# Altium footprint library QFN32_5x5mm.PcbLib: 4 footprints
Each footprint in its own frame and in the unit in brackets; x right, y up, seen from the top. Pads: shape width x height; smd on the part's side, far side on the other; paste and mask are expansions set on the pad; w line width, h text height; cw(c..) or ccw(c..) is an arc to the next point about the centre after c.
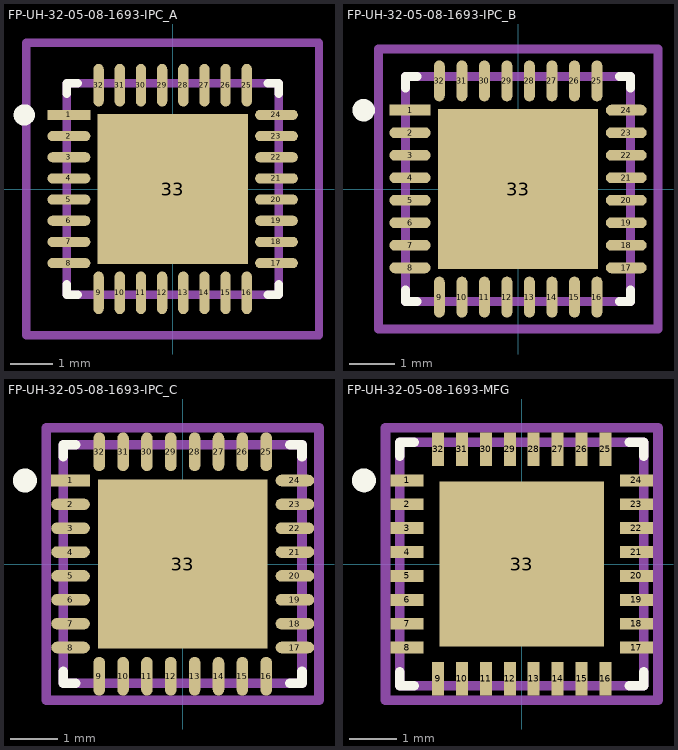
[diagram p0: the footprints below, top view; thin cyan lines are the x and y axes]

## FP-UH-32-05-08-1693-IPC_A [mm]
pads (33):
  rect 1.01x0.242 smd: 1(-2.451,1.75)
  rrect100% 1.01x0.242 smd: 2(-2.451,1.25) 3(-2.451,0.75) 4(-2.451,0.25) 5(-2.451,-0.25) 6(-2.451,-0.75) 7(-2.451,-1.25) 8(-2.451,-1.75) 17(2.451,-1.75) 18(2.451,-1.25) 19(2.451,-0.75) 20(2.451,-0.25) 21(2.451,0.25) 22(2.451,0.75) 23(2.451,1.25) 24(2.451,1.75)
  rrect100% 0.242x1.01 smd: 9(-1.75,-2.451) 10(-1.25,-2.451) 11(-0.75,-2.451) 12(-0.25,-2.451) 13(0.25,-2.451) 14(0.75,-2.451) 15(1.25,-2.451) 16(1.75,-2.451) 25(1.75,2.451) 26(1.25,2.451) 27(0.75,2.451) 28(0.25,2.451) 29(-0.25,2.451) 30(-0.75,2.451) 31(-1.25,2.451) 32(-1.75,2.451)
  rect 3.55x3.55 smd paste-10: 33(0,0)
Top Overlay:
  circle w0.25: c-3.506,1.75 r0.125
  lines w0.2: -2.5,-2.246 -2.5,-2.5 -2.246,-2.5 ; -2.5,2.246 -2.5,2.5 -2.246,2.5 ; 2.246,-2.5 2.5,-2.5 2.5,-2.246 ; 2.246,2.5 2.5,2.5 2.5,2.246
Top Paste:
  rectangle: -1.123,-1.123 1.123,1.123
Top Assembly:
  lines w0.2: -3.456,-3.456 -3.456,3.456 3.456,3.456 3.456,-3.456 -3.456,-3.456
  text ".Designator" at 0,0.187 h1
Top 3D Body:
  lines w0.2: -2.5,-2.5 -2.5,2.5 2.5,2.5 2.5,-2.5 -2.5,-2.5
Top Courtyard:
  lines w0.2: -3.456,-3.456 -3.456,3.456 3.456,3.456 3.456,-3.456 -3.456,-3.456
Top Component Center:
  lines w0.1: -0.5,0 0.5,0 ; 0,-0.5 0,0.5
3D body "IC_Analog_Devices_LTC3330EUH#PBF_eec.STEP": height 0.25, standoff 0, extent -3.456,-3.456 3.456,3.456

## FP-UH-32-05-08-1693-IPC_B [mm]
pads (33):
  rect 0.91x0.242 smd paste+0 mask+0: 1(-2.401,1.75)
  rrect100% 0.91x0.242 smd paste+0 mask+0: 2(-2.401,1.25) 3(-2.401,0.75) 4(-2.401,0.25) 5(-2.401,-0.25) 6(-2.401,-0.75) 7(-2.401,-1.25) 8(-2.401,-1.75) 17(2.401,-1.75) 18(2.401,-1.25) 19(2.401,-0.75) 20(2.401,-0.25) 21(2.401,0.25) 22(2.401,0.75) 23(2.401,1.25) 24(2.401,1.75)
  rrect100% 0.242x0.91 smd paste+0 mask+0: 9(-1.75,-2.401) 10(-1.25,-2.401) 11(-0.75,-2.401) 12(-0.25,-2.401) 13(0.25,-2.401) 14(0.75,-2.401) 15(1.25,-2.401) 16(1.75,-2.401) 25(1.75,2.401) 26(1.25,2.401) 27(0.75,2.401) 28(0.25,2.401) 29(-0.25,2.401) 30(-0.75,2.401) 31(-1.25,2.401) 32(-1.75,2.401)
  rect 3.55x3.55 smd paste-1000 mask+0: 33(0,0)
Top Overlay:
  circle w0.25: c-3.431,1.75 r0.125
  lines w0.2: -2.5,-2.246 -2.5,-2.5 -2.246,-2.5 ; -2.5,2.246 -2.5,2.5 -2.246,2.5 ; 2.246,-2.5 2.5,-2.5 2.5,-2.246 ; 2.246,2.5 2.5,2.5 2.5,2.246
Top Paste:
  rectangle: -1.123,-1.123 1.123,1.123
Top Assembly:
  lines w0.2: -3.106,-3.106 -3.106,3.106 3.106,3.106 3.106,-3.106 -3.106,-3.106
  text ".Designator" at 0,0.187 h1
Top 3D Body:
  lines w0.2: -2.5,-2.5 -2.5,2.5 2.5,2.5 2.5,-2.5 -2.5,-2.5
Top Courtyard:
  lines w0.2: -3.106,-3.106 -3.106,3.106 3.106,3.106 3.106,-3.106 -3.106,-3.106
Top Component Center:
  lines w0.1: -0.5,0 0.5,0 ; 0,-0.5 0,0.5
3D body "IC_Analog_Devices_LTC3330EUH#PBF_eec.STEP": height 0.25, standoff 0, extent -3.106,-3.106 3.106,3.106

## FP-UH-32-05-08-1693-IPC_C [mm]
pads (33):
  rect 0.81x0.242 smd paste+0 mask+0: 1(-2.351,1.75)
  rrect100% 0.81x0.242 smd paste+0 mask+0: 2(-2.351,1.25) 3(-2.351,0.75) 4(-2.351,0.25) 5(-2.351,-0.25) 6(-2.351,-0.75) 7(-2.351,-1.25) 8(-2.351,-1.75) 17(2.351,-1.75) 18(2.351,-1.25) 19(2.351,-0.75) 20(2.351,-0.25) 21(2.351,0.25) 22(2.351,0.75) 23(2.351,1.25) 24(2.351,1.75)
  rrect100% 0.242x0.81 smd paste+0 mask+0: 9(-1.75,-2.351) 10(-1.25,-2.351) 11(-0.75,-2.351) 12(-0.25,-2.351) 13(0.25,-2.351) 14(0.75,-2.351) 15(1.25,-2.351) 16(1.75,-2.351) 25(1.75,2.351) 26(1.25,2.351) 27(0.75,2.351) 28(0.25,2.351) 29(-0.25,2.351) 30(-0.75,2.351) 31(-1.25,2.351) 32(-1.75,2.351)
  rect 3.55x3.55 smd paste-1000 mask+0: 33(0,0)
Top Overlay:
  circle w0.25: c-3.306,1.75 r0.125
  lines w0.2: -2.5,-2.246 -2.5,-2.5 -2.246,-2.5 ; -2.5,2.246 -2.5,2.5 -2.246,2.5 ; 2.246,-2.5 2.5,-2.5 2.5,-2.246 ; 2.246,2.5 2.5,2.5 2.5,2.246
Top Paste:
  rectangle: -1.123,-1.123 1.123,1.123
Top Assembly:
  lines w0.2: -2.856,-2.856 -2.856,2.856 2.856,2.856 2.856,-2.856 -2.856,-2.856
  text ".Designator" at 0,0.187 h1
Top 3D Body:
  lines w0.2: -2.5,-2.5 -2.5,2.5 2.5,2.5 2.5,-2.5 -2.5,-2.5
Top Courtyard:
  lines w0.2: -2.856,-2.856 -2.856,2.856 2.856,2.856 2.856,-2.856 -2.856,-2.856
Top Component Center:
  lines w0.1: -0.5,0 0.5,0 ; 0,-0.5 0,0.5
3D body "IC_Analog_Devices_LTC3330EUH#PBF_eec.STEP": height 0.25, standoff 0, extent -2.856,-2.856 2.856,2.856

## FP-UH-32-05-08-1693-MFG [mm]
pads (33):
  rect 0.7x0.25 smd paste+0 mask+0: 1(-2.4,1.75) 2(-2.4,1.25) 3(-2.4,0.75) 4(-2.4,0.25) 5(-2.4,-0.25) 6(-2.4,-0.75) 7(-2.4,-1.25) 8(-2.4,-1.75) 17(2.4,-1.75) 18(2.4,-1.25) 19(2.4,-0.75) 20(2.4,-0.25) 21(2.4,0.25) 22(2.4,0.75) 23(2.4,1.25) 24(2.4,1.75)
  rect 0.25x0.7 smd paste+0 mask+0: 9(-1.75,-2.4) 10(-1.25,-2.4) 11(-0.75,-2.4) 12(-0.25,-2.4) 13(0.25,-2.4) 14(0.75,-2.4) 15(1.25,-2.4) 16(1.75,-2.4) 25(1.75,2.4) 26(1.25,2.4) 27(0.75,2.4) 28(0.25,2.4) 29(-0.25,2.4) 30(-0.75,2.4) 31(-1.25,2.4) 32(-1.75,2.4)
  rect 3.45x3.45 smd paste+0 mask+0: 33(0,0)
Top Overlay:
  circle w0.25: c-3.3,1.75 r0.125
  lines w0.2: -2.55,-2.25 -2.55,-2.55 -2.25,-2.55 ; -2.55,2.25 -2.55,2.55 -2.25,2.55 ; 2.25,-2.55 2.55,-2.55 2.55,-2.25 ; 2.25,2.55 2.55,2.55 2.55,2.25
Top Assembly:
  lines w0.2: -2.85,-2.85 2.85,-2.85 2.85,2.85 -2.85,2.85 -2.85,-2.85
  text ".Designator" at 0,0.187 h1
Top 3D Body:
  lines w0.2: -2.55,-2.55 2.55,-2.55 2.55,2.55 -2.55,2.55 -2.55,-2.55
Top Courtyard:
  lines w0.2: -2.85,-2.85 2.85,-2.85 2.85,2.85 -2.85,2.85 -2.85,-2.85
Top Component Center:
  lines w0.1: -0.5,0 0.5,0 ; 0,-0.5 0,0.5
3D body "IC_Analog_Devices_LTC3330EUH#PBF_eec.STEP": height 0.25, standoff 0, extent -2.85,-2.85 2.85,2.85